# Altium schematic symbol library XEL6030-222MEC.SchLib: 1 symbol
Pins are listed as number, name and electrical type; pins without a type are passive.

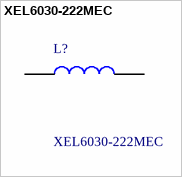
[diagram p0: symbol XEL6030-222MEC]

## XEL6030-222MEC
designator L?
Power Inductors - SMD 2.2uH Shld 20% 10A 13.97mOhms AECQ2; Manufacturer_Name: COILCRAFT; Geometry.Height: 3.1mm; Mouser Part Number: 994-XEL6030-222MEC; Mouser Price/Stock: https://www.mouser.co.uk/ProductDetail/Coilcraft/XEL6030-222MEC?qs=wUXugUrL1qxOlDkRTiG1%2Fw%3D%3D; Manufacturer_Part_Number: XEL6030-222MEC; Datasheet Link: https://www.coilcraft.com/getmedia/ed8d0314-5cbb-4be3-85da-32235c3701c8/xel6030.pdf
footprint XEL6030222MEC
pins: 1, 2